# EAGLE library part MP6550_POLOLU (library MP6550_POLOLU v9)
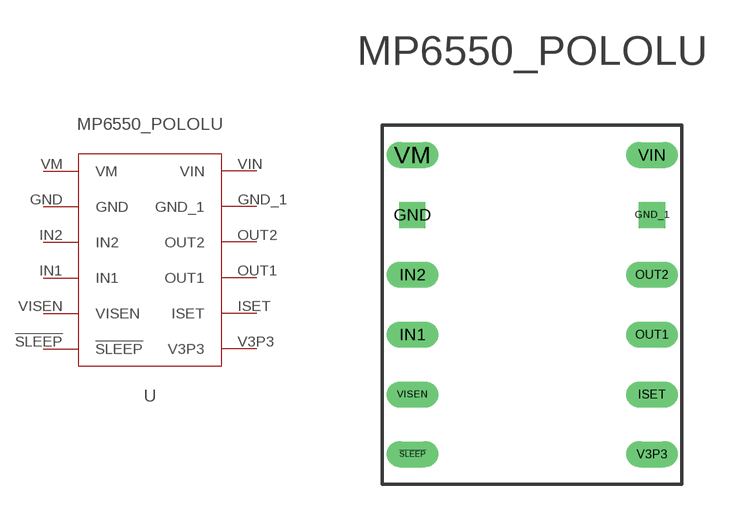
[diagram p0: symbol with the pads of MP6550_POLOLU; footprint MP6550_POLOLU]

Designator prefix -

## MP6550_POLOLU  [MP6550_POLOLU]
!SLEEP  !SLEEP
GND  GND
GND_1  GND_1
IN1  IN1
IN2  IN2
ISET  ISET
OUT1  OUT1
OUT2  OUT2
V3P3  V3P3
VIN  VIN
VISEN  VISEN
VM  VM

## Footprint MP6550_POLOLU (pad centres in mm)
drill 0.6 long: !SLEEP -5.08,-6.35; IN1 -5.08,-1.27; IN2 -5.08,1.27; ISET 5.08,-3.81; OUT1 5.08,-1.27; OUT2 5.08,1.27; V3P3 5.08,-6.35; VIN 5.08,6.35; VISEN -5.08,-3.81; VM -5.08,6.35
drill 0.6 square: GND -5.08,3.81; GND_1 5.08,3.81